# EAGLE library part M66 (library Quectel)
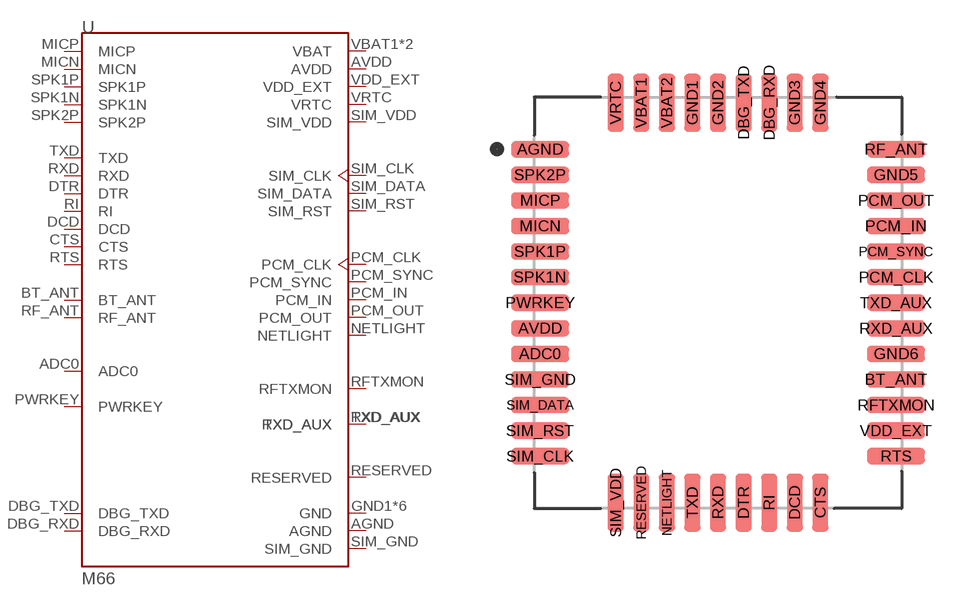
[diagram p2: symbol with the pads of M66; footprint M66]

Designator prefix -

## M66  [M66]
ADC0  ADC0  in
AGND  AGND  pwr
AVDD  AVDD  pwr
BT_ANT  BT_ANT
CTS  CTS  out
DBG_RXD  DBG_RXD  in
DBG_TXD  DBG_TXD  out
DCD  DCD  out
DTR  DTR  in
GND1  GND  pwr
GND2  GND  pwr
GND3  GND  pwr
GND4  GND  pwr
GND5  GND  pwr
GND6  GND  pwr
MICN  MICN  in
MICP  MICP  in
NETLIGHT  NETLIGHT  out
PCM_CLK  PCM_CLK  out
PCM_IN  PCM_IN  in
PCM_OUT  PCM_OUT  out
PCM_SYNC  PCM_SYNC  out
PWRKEY  PWRKEY  in
RESERVED  RESERVED  out
RF_ANT  RF_ANT
RFTXMON  RFTXMON  out
RI  RI  out
RTS  RTS  in
RXD  RXD  in
RXD_AUX  RXD_AUX  in
SIM_CLK  SIM_CLK  out
SIM_DATA  SIM_DATA
SIM_GND  SIM_GND  pwr
SIM_RST  SIM_RST  out
SIM_VDD  SIM_VDD  pwr
SPK1N  SPK1N  out
SPK1P  SPK1P  out
SPK2P  SPK2P  out
TXD  TXD  out
TXD_AUX  TXD_AUX  out
VBAT1  VBAT  pwr
VBAT2  VBAT  pwr
VDD_EXT  VDD_EXT  pwr
VRTC  VRTC  pwr

## Footprint M66 (pad centres in mm)
smd 2.5 x 0.7: ADC0 -7.65,-2.2; AGND -7.65,6.6; AVDD -7.65,-1.1; BT_ANT 7.65,-3.3; GND5 7.65,5.5; GND6 7.65,-2.2; MICN -7.65,3.3; MICP -7.65,4.4; PCM_CLK 7.65,1.1; PCM_IN 7.65,3.3; PCM_OUT 7.65,4.4; PCM_SYNC 7.65,2.2; PWRKEY -7.65,0; RF_ANT 7.65,6.6; RFTXMON 7.65,-4.4; RTS 7.65,-6.6; RXD_AUX 7.65,-1.1; SIM_CLK -7.65,-6.6; SIM_DATA -7.65,-4.4; SIM_GND -7.65,-3.3; SIM_RST -7.65,-5.5; SPK1N -7.65,1.1; SPK1P -7.65,2.2; SPK2P -7.65,5.5; TXD_AUX 7.65,0; VDD_EXT 7.65,-5.5
smd 0.7 x 2.5: CTS 4.4,-8.6; DBG_RXD 2.2,8.6; DBG_TXD 1.1,8.6; DCD 3.3,-8.6; DTR 1.1,-8.6; GND1 -1.1,8.6; GND2 0,8.6; GND3 3.3,8.6; GND4 4.4,8.6; NETLIGHT -2.2,-8.6; RESERVED -3.3,-8.6; RI 2.2,-8.6; RXD 0,-8.6; SIM_VDD -4.4,-8.6; TXD -1.1,-8.6; VBAT1 -3.3,8.6; VBAT2 -2.2,8.6; VRTC -4.4,8.6